# Altium schematic symbol library mcu_stm32.SchLib: 16 symbols
Pins are listed as number, name and electrical type; pins without a type are passive.

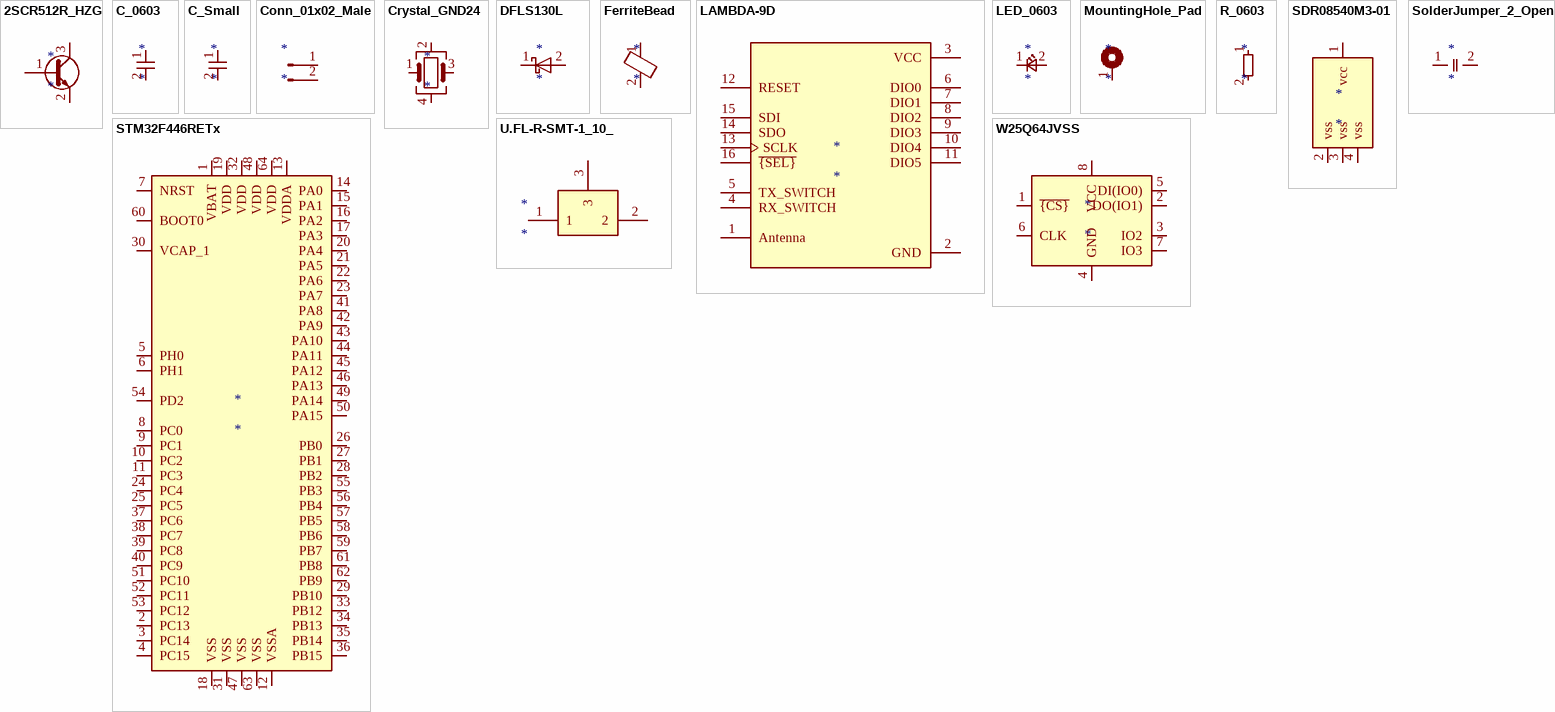
[diagram p0: symbols 2SCR512R_HZG to W25Q64JVSS]

## 2SCR512R_HZG
designator *
pins: 1 B, 2 E, 3 C

## C_0603
designator *
pins: 1, 2

## C_Small
designator *
pins: 1, 2

## Conn_01x02_Male
designator *
pins: 1 Pin_1, 2 Pin_2

## Crystal_GND24
designator *
pins: 1, 2, 3, 4

## DFLS130L
designator *
pins: 1 K, 2 A

## FerriteBead
designator *
pins: 1, 2

## LAMBDA-9D
designator *
pins: 1 Antenna, 2 GND, 3 VCC, 4 RX_SWITCH, 5 TX_SWITCH, 6 DIO0, 7 DIO1, 8 DIO2, 9 DIO3, 10 DIO4, 11 DIO5, 12 RESET, 13 SCLK, 14 SDO, 15 SDI, 16 ~{{SEL}}

## LED_0603
designator *
pins: 1 K, 2 A

## MountingHole_Pad
designator *
pins: 1

## R_0603
designator *
pins: 1, 2

## SDR08540M3-01
designator *
pins: 1 vcc, 2 vss, 3 vss, 4 vss

## SolderJumper_2_Open
designator *
pins: 1 A, 2 B

## STM32F446RETx
designator *
pins: 1 VBAT, 2 PC13, 3 PC14, 4 PC15, 5 PH0, 6 PH1, 7 NRST, 8 PC0, 9 PC1, 10 PC2, 11 PC3, 12 VSSA, 13 VDDA, 14 PA0, 15 PA1, 16 PA2, 17 PA3, 18 VSS, 19 VDD, 20 PA4, 21 PA5, 22 PA6, 23 PA7, 24 PC4, 25 PC5, 26 PB0, 27 PB1, 28 PB2, 29 PB10, 30 VCAP_1, 31 VSS, 32 VDD, 33 PB12, 34 PB13, 35 PB14, 36 PB15, 37 PC6, 38 PC7, 39 PC8, 40 PC9, 41 PA8, 42 PA9, 43 PA10, 44 PA11, 45 PA12, 46 PA13, 47 VSS, 48 VDD, 49 PA14, 50 PA15, 51 PC10, 52 PC11, 53 PC12, 54 PD2, 55 PB3, 56 PB4, 57 PB5, 58 PB6, 59 PB7, 60 BOOT0, 61 PB8, 62 PB9, 63 VSS, 64 VDD

## U.FL-R-SMT-1_10_
designator *
pins: 1, 2, 3

## W25Q64JVSS
designator *
pins: 1 ~{{CS}}, 2 DO(IO1), 3 IO2, 4 GND, 5 DI(IO0), 6 CLK, 7 IO3, 8 VCC